# EAGLE library part PIC16F687 (library g5pwlib)
Microchip PIC16F687 Microcontroller 20-Pin Flash-Based, 8-Bit CMOS Microcontrollers with nanoWatt Technology.
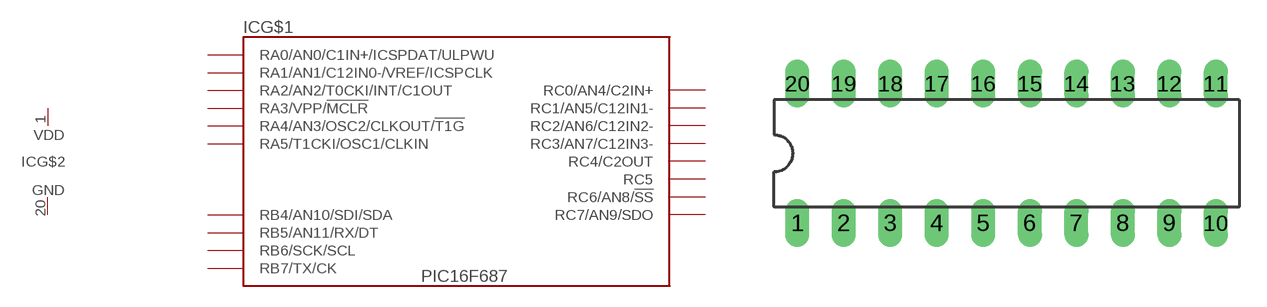
[diagram p1: symbol with the pads of DIP20; footprint DIP20]

Designator prefix IC; gates G$1=PIC16F687 G$2=SUPPLY

## PIC16F687  [DIP20]
1  G$2:VDD  pwr
2  G$1:RA5/T1CKI/OSC1/CLKIN
3  G$1:RA4/AN3/OSC2/CLKOUT/!T1G
4  G$1:RA3/VPP/!MCLR  in
5  G$1:RC5
6  G$1:RC4/C2OUT
7  G$1:RC3/AN7/C12IN3-
8  G$1:RC6/AN8/!SS
9  G$1:RC7/AN9/SDO
10  G$1:RB7/TX/CK
11  G$1:RB6/SCK/SCL
12  G$1:RB5/AN11/RX/DT
13  G$1:RB4/AN10/SDI/SDA
14  G$1:RC2/AN6/C12IN2-
15  G$1:RC1/AN5/C12IN1-
16  G$1:RC0/AN4/C2IN+
17  G$1:RA2/AN2/T0CKI/INT/C1OUT
18  G$1:RA1/AN1/C12IN0-/VREF/ICSPCLK
19  G$1:RA0/AN0/C1IN+/ICSPDAT/ULPWU
20  G$2:GND  pwr

## Footprint DIP20 (pad centres in mm)
Dual in line package, 20 pin
drill 0.813 long: 1 -11.43,-3.81; 2 -8.89,-3.81; 3 -6.35,-3.81; 4 -3.81,-3.81; 5 -1.27,-3.81; 6 1.27,-3.81; 7 3.81,-3.81; 8 6.35,-3.81; 9 8.89,-3.81; 10 11.43,-3.81; 11 11.43,3.81; 12 8.89,3.81; 13 6.35,3.81; 14 3.81,3.81; 15 1.27,3.81; 16 -1.27,3.81; 17 -3.81,3.81; 18 -6.35,3.81; 19 -8.89,3.81; 20 -11.43,3.81